# EAGLE library part CY8C29666_QFN48 (library cypresspsoc_0.30)
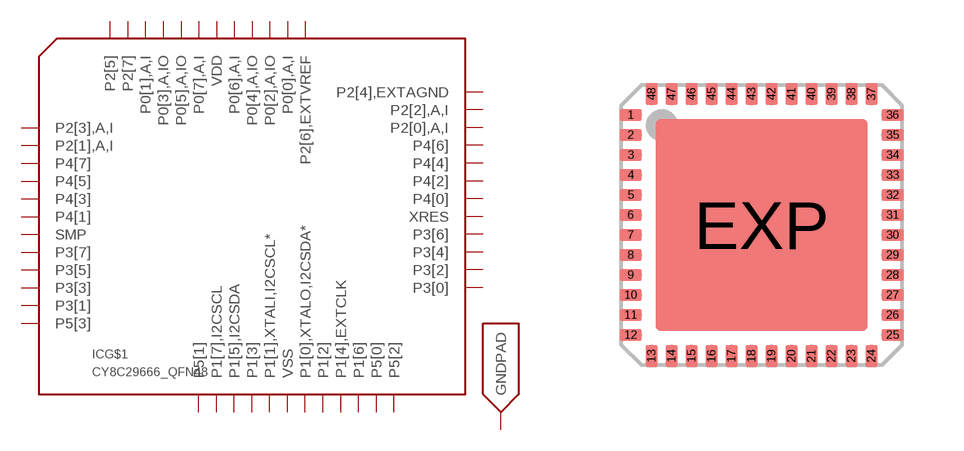
[diagram p8: symbol with the pads of QFN48; footprint QFN48]

Designator prefix IC; gates G$1=CY8C29666 G$2=GNDPAD

## CY8C29666_QFN48  [QFN48]
1  G$1:P2[3],A,I
2  G$1:P2[1],A,I
3  G$1:P4[7]
4  G$1:P4[5]
5  G$1:P4[3]
6  G$1:P4[1]
7  G$1:SMP  pwr
8  G$1:P3[7]
9  G$1:P3[5]
10  G$1:P3[3]
11  G$1:P3[1]
12  G$1:P5[3]
13  G$1:P5[1]
14  G$1:P1[7],I2CSCL
15  G$1:P1[5],I2CSDA
16  G$1:P1[3]
17  G$1:P1[1],XTALI,I2CSCL*
18  G$1:VSS  pwr
19  G$1:P1[0],XTALO,I2CSDA*
20  G$1:P1[2]
21  G$1:P1[4],EXTCLK
22  G$1:P1[6]
23  G$1:P5[0]
24  G$1:P5[2]
25  G$1:P3[0]
26  G$1:P3[2]
27  G$1:P3[4]
28  G$1:P3[6]
29  G$1:XRES
30  G$1:P4[0]
31  G$1:P4[2]
32  G$1:P4[4]
33  G$1:P4[6]
34  G$1:P2[0],A,I
35  G$1:P2[2],A,I
36  G$1:P2[4],EXTAGND
37  G$1:P2[6],EXTVREF
38  G$1:P0[0],A,I
39  G$1:P0[2],A,IO
40  G$1:P0[4],A,IO
41  G$1:P0[6],A,I
42  G$1:VDD  pwr
43  G$1:P0[7],A,I
44  G$1:P0[5],A,IO
45  G$1:P0[3],A,IO
46  G$1:P0[1],A,I
47  G$1:P2[7]
48  G$1:P2[5]
EXP  G$2:GNDPAD  pwr

## Footprint QFN48 (pad centres in mm)
48-pin QFN 7 x 7 mm LF48 48 Quad Flat Package No Leads Source: http://v4.cypress.com/cfuploads/img/products/cywusb6934.pdf
smd 0.55 x 0.3: 1 -3.275,2.75; 2 -3.275,2.25; 3 -3.275,1.75; 4 -3.275,1.25; 5 -3.275,0.75; 6 -3.275,0.25; 7 -3.275,-0.25; 8 -3.275,-0.75; 9 -3.275,-1.25; 10 -3.275,-1.75; 11 -3.275,-2.25; 12 -3.275,-2.75; 25 3.275,-2.75; 26 3.275,-2.25; 27 3.275,-1.75; 28 3.275,-1.25; 29 3.275,-0.75; 30 3.275,-0.25; 31 3.275,0.25; 32 3.275,0.75; 33 3.275,1.25; 34 3.275,1.75; 35 3.275,2.25; 36 3.275,2.75
smd 0.3 x 0.55: 13 -2.75,-3.275; 14 -2.25,-3.275; 15 -1.75,-3.275; 16 -1.25,-3.275; 17 -0.75,-3.275; 18 -0.25,-3.275; 19 0.25,-3.275; 20 0.75,-3.275; 21 1.25,-3.275; 22 1.75,-3.275; 23 2.25,-3.275; 24 2.75,-3.275; 37 2.75,3.275; 38 2.25,3.275; 39 1.75,3.275; 40 1.25,3.275; 41 0.75,3.275; 42 0.25,3.275; 43 -0.25,3.275; 44 -0.75,3.275; 45 -1.25,3.275; 46 -1.75,3.275; 47 -2.25,3.275; 48 -2.75,3.275
smd 5.309 x 5.309: EXP 0,0